# EAGLE library part M08_SMD_STRAIGHT (library myownthings)
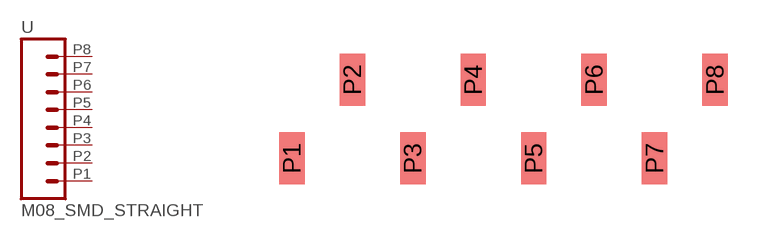
[diagram p5: symbol with the pads of M08_SMD_STRAIGHT; footprint M08_SMD_STRAIGHT]

Designator prefix -

## M08_SMD_STRAIGHT  [M08_SMD_STRAIGHT]
P1  1  pas
P2  2  pas
P3  3  pas
P4  4  pas
P5  5  pas
P6  6  pas
P7  7  pas
P8  8  pas

## Footprint M08_SMD_STRAIGHT (pad centres in mm)
smd 1.067 x 2.184: P1 0,0; P2 2.54,3.302; P3 5.08,0; P4 7.62,3.302; P5 10.16,0; P6 12.7,3.302; P7 15.24,0; P8 17.78,3.302